# EAGLE library part CD4017BE (library my_devices)
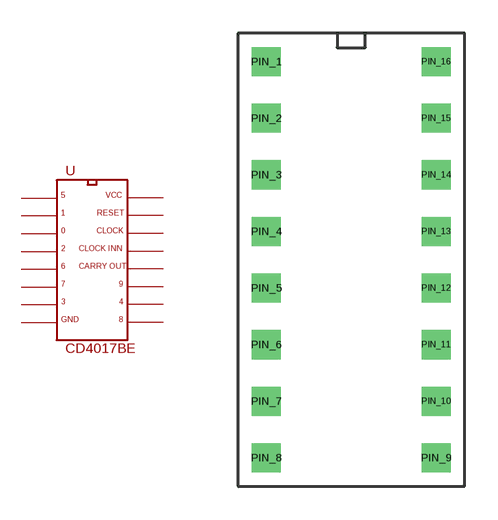
[diagram p13: symbol with the pads of PDIP16; footprint PDIP16]

Designator prefix U

## CD4017BE  [PDIP16]
PIN_1  OUT_5
PIN_2  OUT_1
PIN_3  OUT_0
PIN_4  OUT_2
PIN_5  OUT_6
PIN_6  OUT_7
PIN_7  OUT_3
PIN_8  GND  pwr
PIN_9  OUT_8
PIN_10  OUT_4
PIN_11  OUT_9
PIN_12  CARRY_OUT
PIN_13  CLOCK_INN
PIN_14  CLOCK
PIN_15  RESET
PIN_16  VCC  pwr

## Footprint PDIP16 (pad centres in mm)
drill 0.8 square: PIN_1 -3.81,10.16; PIN_2 -3.81,7.62; PIN_3 -3.81,5.08; PIN_4 -3.81,2.54; PIN_5 -3.81,0; PIN_6 -3.81,-2.54; PIN_7 -3.81,-5.08; PIN_8 -3.81,-7.62; PIN_9 3.81,-7.62; PIN_10 3.81,-5.08; PIN_11 3.81,-2.54; PIN_12 3.81,0; PIN_13 3.81,2.54; PIN_14 3.81,5.08; PIN_15 3.81,7.62; PIN_16 3.81,10.16